# Altium footprint library PCB_Switch.PcbLib: 30 footprints (part 1 of 2)
Each footprint in its own frame and in the unit in brackets; x right, y up, seen from the top. Pads: shape width x height; smd on the part's side, far side on the other; paste and mask are expansions set on the pad; w line width, h text height; cw(c..) or ccw(c..) is an arc to the next point about the centre after c.
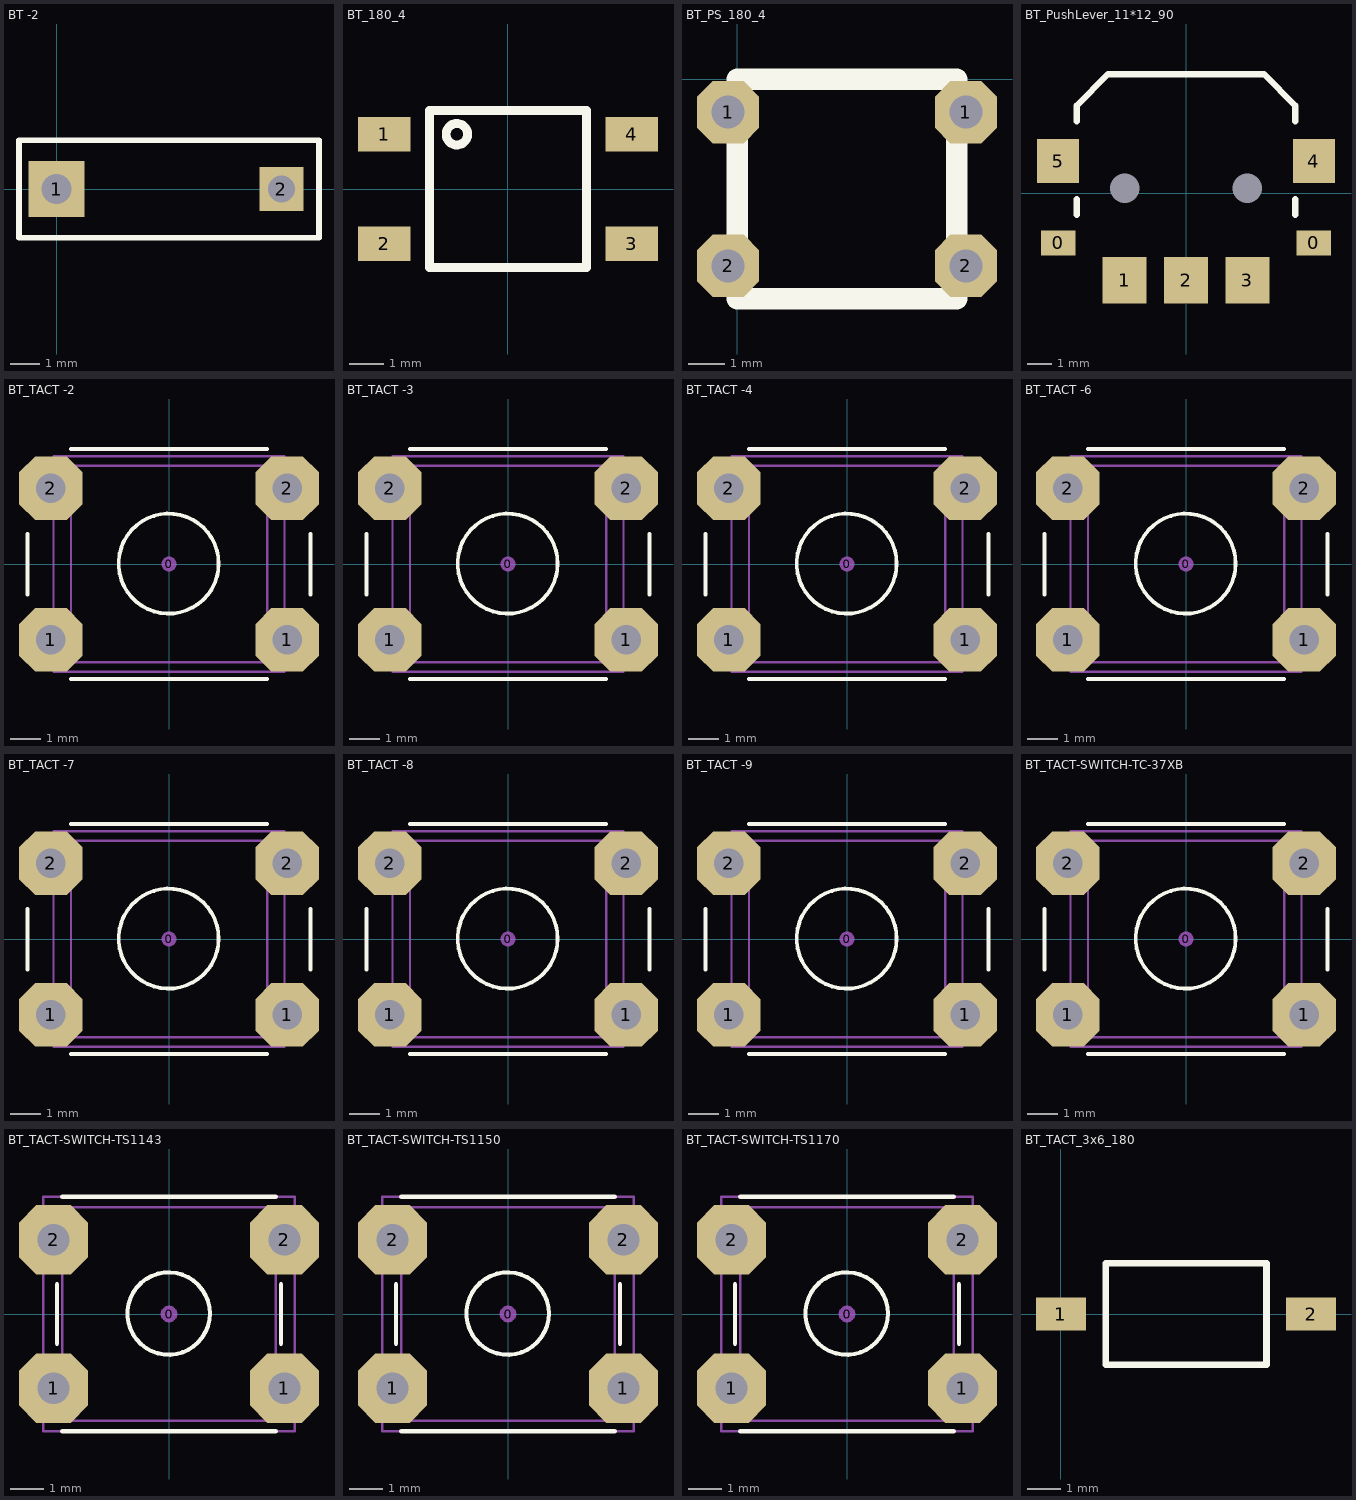
[diagram p0: the footprints below, top view; thin cyan lines are the x and y axes]

## BT -2 [mm]
pads (2):
  rect 1.905x1.905 hole 1: 1(0,0)
  rect 1.5x1.5 hole 0.9: 2(7.62,0)
Top Overlay:
  lines w0.2: -1.27,-1.651 -1.27,1.651 8.89,1.651 8.89,-1.651 -1.27,-1.651
3D body: height 8.02, standoff -0.98, extent -0.19,-1.727 7.81,1.773

## BT_180_4 [mm]
pads (4):
  rect 1.5x1 smd: 1(-3.55,1.57) 2(-3.55,-1.57) 3(3.55,-1.57) 4(3.55,1.57)
Top Overlay:
  circle w0.254: c-1.465,1.57 r0.307
  lines w0.254: -2.25,-2.25 -2.25,2.25 2.25,2.25 2.25,-2.25 -2.25,-2.25
3D body: height 7.49, standoff 0.02, extent -4.066,-2.235 3.934,2.265

## BT_PS_180_4 [mm]
pads (4):
  oct 1.7x1.7 hole 0.9: 1(-0.25,-0.9) 1(6.25,-0.9) 2(-0.25,-5.1) 2(6.25,-5.1)
Top Overlay:
  lines w0.6: 0,-6 0,0 6,0 6,-6 0,-6
3D body: height 7.4, standoff -3.5, extent -0.978,-6.097 6.922,0.103

## BT_PushLever_11*12_90 [mm]
pads (9):
  rect 1.4x1 smd: 0(-5.2,-2.032) 0(5.2,-2.032)
  round 0.254 hole 1.2: 0(-2.5,0.2) 0(2.5,0.2)
  rect 1.8x1.9 smd: 1(-2.5,-3.55) 2(0,-3.55) 3(2.5,-3.55)
  rect 1.7x1.8 smd: 4(5.2,1.3) 5(-5.2,1.3)
Top Overlay:
  lines w0.254: -4.445,-0.889 -4.445,-0.254 ; -4.445,2.921 -4.445,3.556 -3.175,4.826 3.175,4.826 4.445,3.556 4.445,2.921 ; 4.445,-0.889 4.445,-0.254

## BT_TACT -2 [mm] "Wealth Metal sealed TH tact switch"
height 5
pads (5):
  round 0.508 on Mech14: 0(0,0)
  oct 2.1x2.1 hole 0.965: 1(-3.9,-2.5) 1(3.9,-2.5) 2(-3.9,2.5) 2(3.9,2.5)
Top Overlay:
  circle w0.127: c-0.011,0.014 r1.65
  lines w0.127: -4.67,-1 -4.67,1 ; -3.239,-3.791 3.24,-3.791 ; -3.232,3.794 3.24,3.794 ; 4.67,-1 4.67,1
Mechanical 13:
  circle w0.076: c-0.011,0.014 r1.65
  lines w0.076: -3.232,-3.237 -3.232,3.24 3.24,3.24 3.24,-3.237 -3.232,-3.237
Mechanical 14:
  lines w0.076: -3.81,-3.556 3.81,-3.556 3.81,3.556 -3.81,3.556 -3.81,-3.556
3D body: height 1.42, standoff -0.02, extent -2.427,-8.881 2.173,-5.331

## BT_TACT -3 [mm] "Wealth Metal sealed TH tact switch"
height 5
pads (5):
  round 0.508 on Mech14: 0(0,0)
  oct 2.1x2.1 hole 0.965: 1(-3.9,-2.5) 1(3.9,-2.5) 2(-3.9,2.5) 2(3.9,2.5)
Top Overlay:
  circle w0.127: c-0.011,0.014 r1.65
  lines w0.127: -4.67,-1 -4.67,1 ; -3.239,-3.791 3.24,-3.791 ; -3.232,3.794 3.24,3.794 ; 4.67,-1 4.67,1
Mechanical 13:
  circle w0.076: c-0.011,0.014 r1.65
  lines w0.076: -3.232,-3.237 3.24,-3.237 3.24,3.24 -3.232,3.24 -3.232,-3.237
Mechanical 14:
  lines w0.076: -3.81,-3.556 -3.81,3.556 3.81,3.556 3.81,-3.556 -3.81,-3.556
3D body: height 9.73, standoff -4.32, extent -4.991,-10.414 6.007,-4.826

## BT_TACT -4 [mm] "Wealth Metal sealed TH tact switch"
height 5
pads (5):
  round 0.508 on Mech14: 0(0,0)
  oct 2.1x2.1 hole 0.965: 1(-3.9,-2.5) 1(3.9,-2.5) 2(-3.9,2.5) 2(3.9,2.5)
Top Overlay:
  circle w0.127: c-0.011,0.014 r1.65
  lines w0.127: -4.67,-1 -4.67,1 ; -3.239,-3.791 3.24,-3.791 ; -3.232,3.794 3.24,3.794 ; 4.67,-1 4.67,1
Mechanical 13:
  circle w0.076: c-0.011,0.014 r1.65
  lines w0.076: -3.232,-3.237 -3.232,3.24 3.24,3.24 3.24,-3.237 -3.232,-3.237
Mechanical 14:
  lines w0.076: -3.81,-3.556 3.81,-3.556 3.81,3.556 -3.81,3.556 -3.81,-3.556
3D body: height 0.55, standoff -8.05, extent -6.881,-19.558 6.119,-7.358

## BT_TACT -6 [mm] "Wealth Metal sealed TH tact switch"
height 5
pads (5):
  round 0.508 on Mech14: 0(0,0)
  oct 2.1x2.1 hole 0.965: 1(-3.9,-2.5) 1(3.9,-2.5) 2(-3.9,2.5) 2(3.9,2.5)
Top Overlay:
  circle w0.127: c-0.011,0.014 r1.65
  lines w0.127: -4.67,-1 -4.67,1 ; -3.239,-3.791 3.24,-3.791 ; -3.232,3.794 3.24,3.794 ; 4.67,-1 4.67,1
Mechanical 13:
  circle w0.076: c-0.011,0.014 r1.65
  lines w0.076: -3.232,-3.237 3.24,-3.237 3.24,3.24 -3.232,3.24 -3.232,-3.237
Mechanical 14:
  lines w0.076: -3.81,-3.556 -3.81,3.556 3.81,3.556 3.81,-3.556 -3.81,-3.556
3D body: height 5.25, standoff -3.85, extent -6.413,-15.771 6.587,-2.871

## BT_TACT -7 [mm] "Wealth Metal sealed TH tact switch"
height 5
pads (5):
  round 0.508 on Mech14: 0(0,0)
  oct 2.1x2.1 hole 0.965: 1(-3.9,-2.5) 1(3.9,-2.5) 2(-3.9,2.5) 2(3.9,2.5)
Top Overlay:
  circle w0.127: c-0.011,0.014 r1.65
  lines w0.127: -4.67,-1 -4.67,1 ; -3.239,-3.791 3.24,-3.791 ; -3.232,3.794 3.24,3.794 ; 4.67,-1 4.67,1
Mechanical 13:
  circle w0.076: c-0.011,0.014 r1.65
  lines w0.076: -3.232,-3.237 3.24,-3.237 3.24,3.24 -3.232,3.24 -3.232,-3.237
Mechanical 14:
  lines w0.076: -3.81,-3.556 -3.81,3.556 3.81,3.556 3.81,-3.556 -3.81,-3.556
3D body: height 5, standoff 0, extent -3.854,-8.735 3.346,-5.235

## BT_TACT -8 [mm] "Wealth Metal sealed TH tact switch"
height 5
pads (5):
  round 0.508 on Mech14: 0(0,0)
  oct 2.1x2.1 hole 0.965: 1(-3.9,-2.5) 1(3.9,-2.5) 2(-3.9,2.5) 2(3.9,2.5)
Top Overlay:
  circle w0.127: c-0.011,0.014 r1.65
  lines w0.127: -4.67,-1 -4.67,1 ; -3.239,-3.791 3.24,-3.791 ; -3.232,3.794 3.24,3.794 ; 4.67,-1 4.67,1
Mechanical 13:
  circle w0.076: c-0.011,0.014 r1.65
  lines w0.076: -3.232,-3.237 3.24,-3.237 3.24,3.24 -3.232,3.24 -3.232,-3.237
Mechanical 14:
  lines w0.076: -3.81,-3.556 -3.81,3.556 3.81,3.556 3.81,-3.556 -3.81,-3.556
3D body: height 14, standoff -3.5, extent -4.504,-12.505 3.996,-4.005

## BT_TACT -9 [mm] "Wealth Metal sealed TH tact switch"
height 5
pads (5):
  round 0.508 on Mech14: 0(0,0)
  oct 2.1x2.1 hole 0.965: 1(-3.9,-2.5) 1(3.9,-2.5) 2(-3.9,2.5) 2(3.9,2.5)
Top Overlay:
  circle w0.127: c-0.011,0.014 r1.65
  lines w0.127: -4.67,-1 -4.67,1 ; -3.239,-3.791 3.24,-3.791 ; -3.232,3.794 3.24,3.794 ; 4.67,-1 4.67,1
Mechanical 13:
  circle w0.076: c-0.011,0.014 r1.65
  lines w0.076: -3.232,-3.237 -3.232,3.24 3.24,3.24 3.24,-3.237 -3.232,-3.237
Mechanical 14:
  lines w0.076: -3.81,-3.556 3.81,-3.556 3.81,3.556 -3.81,3.556 -3.81,-3.556
3D body: height 6.5, standoff -2.5, extent -3.873,-7.747 4.127,-4.247

## BT_TACT-SWITCH-TC-37XB [mm] "Wealth Metal sealed TH tact switch"
height 5
pads (5):
  round 0.508 on Mech14: 0(0,0)
  oct 2.1x2.1 hole 0.965: 1(-3.9,-2.5) 1(3.9,-2.5) 2(-3.9,2.5) 2(3.9,2.5)
Top Overlay:
  circle w0.127: c-0.011,0.014 r1.65
  lines w0.127: -4.67,-1 -4.67,1 ; -3.239,-3.791 3.24,-3.791 ; -3.232,3.794 3.24,3.794 ; 4.67,-1 4.67,1
Mechanical 13:
  circle w0.076: c-0.011,0.014 r1.65
  lines w0.076: -3.232,-3.237 3.24,-3.237 3.24,3.24 -3.232,3.24 -3.232,-3.237
Mechanical 14:
  lines w0.076: -3.81,-3.556 -3.81,3.556 3.81,3.556 3.81,-3.556 -3.81,-3.556
3D body: height 5, standoff -3.9, extent -4.456,-3.6 4.456,3.6

## BT_TACT-SWITCH-TS1143 [mm] "Bondtact sealed TH tact switch"
height 4.318
pads (5):
  round 0.508 on Mech14: 0(0,0)
  oct 2.1x2.1 hole 0.965: 1(-3.5,-2.25) 1(3.5,-2.25) 2(-3.5,2.25) 2(3.5,2.25)
Top Overlay:
  circle w0.127: c-0.011,0.014 r1.25
  lines w0.127: -3.4,-0.9 -3.4,0.9 ; -3.239,-3.556 3.24,-3.556 ; -3.236,3.556 3.236,3.556 ; 3.4,-0.9 3.4,0.9
Mechanical 13:
  circle w0.076: c-0.011,0.014 r1.25
  lines w0.076: -3.232,-3.237 -3.232,3.24 3.24,3.24 3.24,-3.237 -3.232,-3.237
Mechanical 14:
  lines w0.076: -3.81,-3.556 3.81,-3.556 3.81,3.556 -3.81,3.556 -3.81,-3.556
3D body: height 4.3, standoff -3.5, extent -4.134,-3.25 4.134,3.25

## BT_TACT-SWITCH-TS1150 [mm] "Bondtact sealed TH tact switch"
height 5.18
pads (5):
  round 0.508 on Mech14: 0(0,0)
  oct 2.1x2.1 hole 0.965: 1(-3.5,-2.25) 1(3.5,-2.25) 2(-3.5,2.25) 2(3.5,2.25)
Top Overlay:
  circle w0.127: c-0.011,0.014 r1.25
  lines w0.127: -3.4,-0.9 -3.4,0.9 ; -3.239,-3.556 3.24,-3.556 ; -3.236,3.556 3.236,3.556 ; 3.4,-0.9 3.4,0.9
Mechanical 13:
  circle w0.076: c-0.011,0.014 r1.25
  lines w0.076: -3.232,-3.237 -3.232,3.24 3.24,3.24 3.24,-3.237 -3.232,-3.237
Mechanical 14:
  lines w0.076: -3.81,-3.556 3.81,-3.556 3.81,3.556 -3.81,3.556 -3.81,-3.556
3D body: height 5, standoff -3.5, extent -4.134,-3.25 4.134,3.25

## BT_TACT-SWITCH-TS1170 [mm] "Bondtact sealed TH tact switch"
height 6.985
pads (5):
  round 0.508 on Mech14: 0(0,0)
  oct 2.1x2.1 hole 0.965: 1(-3.5,-2.25) 1(3.5,-2.25) 2(-3.5,2.25) 2(3.5,2.25)
Top Overlay:
  circle w0.127: c-0.011,0.014 r1.25
  lines w0.127: -3.4,-0.9 -3.4,0.9 ; -3.239,-3.556 3.24,-3.556 ; -3.236,3.556 3.236,3.556 ; 3.4,-0.9 3.4,0.9
Mechanical 13:
  circle w0.076: c-0.011,0.014 r1.25
  lines w0.076: -3.232,-3.237 3.24,-3.237 3.24,3.24 -3.232,3.24 -3.232,-3.237
Mechanical 14:
  lines w0.076: -3.81,-3.556 -3.81,3.556 3.81,3.556 3.81,-3.556 -3.81,-3.556
3D body: height 7, standoff -3.5, extent -4.134,-3.25 4.134,3.25

## BT_TACT_3x6_180 [mm]
pads (2):
  rect 1.5x1 smd: 1(0,0) 2(7.509,0)
Top Overlay:
  lines w0.2: 1.346,-1.524 1.346,1.524 6.172,1.524 6.172,-1.524 1.346,-1.524
3D body: height 5, standoff 0, extent 0.166,-1.753 7.366,1.747